# Altium footprint library altera.PCBLIB: 27 footprints (part 2 of 4)
Each footprint in its own frame and in the unit in brackets; x right, y up, seen from the top. Pads: shape width x height; smd on the part's side, far side on the other; paste and mask are expansions set on the pad; w line width, h text height; cw(c..) or ccw(c..) is an arc to the next point about the centre after c.
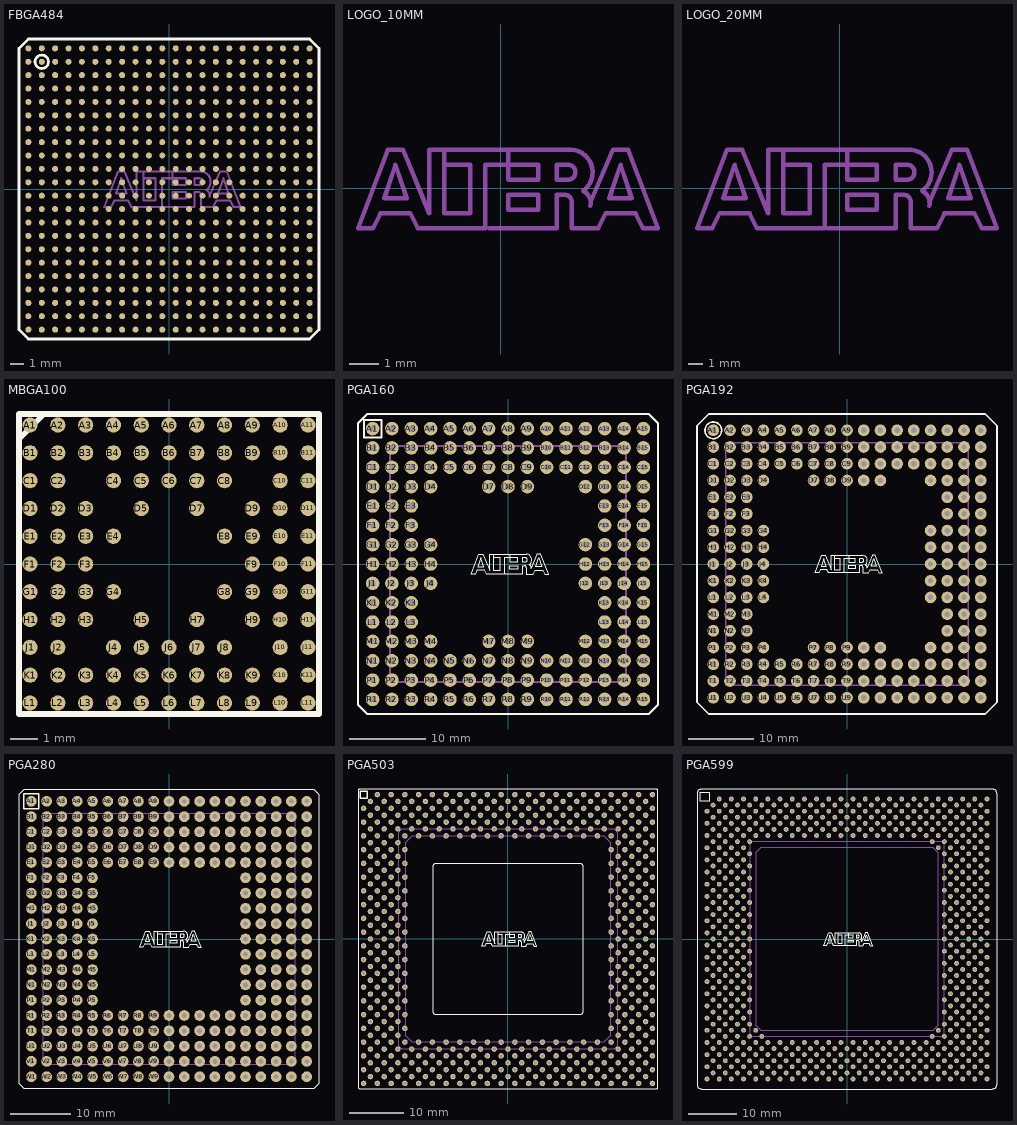
[diagram p1: the footprints below, top view; thin cyan lines are the x and y axes]

## FBGA484 [mil]
pads (484):
  rrect100% 17.72x17.72 smd: A1(-413.39,413.39) A2(-374.02,413.39) A3(-334.65,413.39) A4(-295.28,413.39) A5(-255.91,413.39) A6(-216.54,413.39) A7(-177.17,413.39) A8(-137.8,413.39) A9(-98.43,413.39) A10(-59.06,413.39) A11(-19.69,413.39) A12(19.69,413.39) A13(59.06,413.39) A14(98.43,413.39) A15(137.8,413.39) A16(177.17,413.39) A17(216.54,413.39) A18(255.91,413.39) A19(295.28,413.39) A20(334.65,413.39) A21(374.02,413.39) A22(413.39,413.39) AA1(-413.39,-374.02) AA2(-374.02,-374.02) AA3(-334.65,-374.02) AA4(-295.28,-374.02) AA5(-255.91,-374.02) AA6(-216.54,-374.02) AA7(-177.17,-374.02) AA8(-137.8,-374.02) AA9(-98.43,-374.02) AA10(-59.06,-374.02) AA11(-19.69,-374.02) AA12(19.69,-374.02) AA13(59.06,-374.02) AA14(98.43,-374.02) AA15(137.8,-374.02) AA16(177.17,-374.02) AA17(216.54,-374.02) AA18(255.91,-374.02) AA19(295.28,-374.02) AA20(334.65,-374.02) AA21(374.02,-374.02) AA22(413.39,-374.02) AB1(-413.39,-413.39) AB2(-374.02,-413.39) AB3(-334.65,-413.39) AB4(-295.28,-413.39) AB5(-255.91,-413.39) AB6(-216.54,-413.39) AB7(-177.17,-413.39) AB8(-137.8,-413.39) AB9(-98.43,-413.39) AB10(-59.06,-413.39) AB11(-19.69,-413.39) AB12(19.69,-413.39) AB13(59.06,-413.39) AB14(98.43,-413.39) AB15(137.8,-413.39) AB16(177.17,-413.39) AB17(216.54,-413.39) AB18(255.91,-413.39) AB19(295.28,-413.39) AB20(334.65,-413.39) AB21(374.02,-413.39) AB22(413.39,-413.39) B1(-413.39,374.02) B2(-374.02,374.02) B3(-334.65,374.02) B4(-295.28,374.02) B5(-255.91,374.02) B6(-216.54,374.02) B7(-177.17,374.02) B8(-137.8,374.02) B9(-98.43,374.02) B10(-59.06,374.02) B11(-19.69,374.02) B12(19.69,374.02) B13(59.06,374.02) B14(98.43,374.02) B15(137.8,374.02) B16(177.17,374.02) B17(216.54,374.02) B18(255.91,374.02) B19(295.28,374.02) B20(334.65,374.02) B21(374.02,374.02) B22(413.39,374.02) C1(-413.39,334.65) C2(-374.02,334.65) C3(-334.65,334.65) C4(-295.28,334.65) C5(-255.91,334.65) C6(-216.54,334.65) C7(-177.17,334.65) C8(-137.8,334.65) C9(-98.43,334.65) C10(-59.06,334.65) C11(-19.69,334.65) C12(19.69,334.65) C13(59.06,334.65) C14(98.43,334.65) C15(137.8,334.65) C16(177.17,334.65) C17(216.54,334.65) C18(255.91,334.65) C19(295.28,334.65) C20(334.65,334.65) C21(374.02,334.65) C22(413.39,334.65) D1(-413.39,295.28) D2(-374.02,295.28) D3(-334.65,295.28) D4(-295.28,295.28) D5(-255.91,295.28) D6(-216.54,295.28) D7(-177.17,295.28) D8(-137.8,295.28) D9(-98.43,295.28) D10(-59.06,295.28) D11(-19.69,295.28) D12(19.69,295.28) D13(59.06,295.28) D14(98.43,295.28) D15(137.8,295.28) D16(177.17,295.28) D17(216.54,295.28) D18(255.91,295.28) D19(295.28,295.28) D20(334.65,295.28) D21(374.02,295.28) D22(413.39,295.28) E1(-413.39,255.91) E2(-374.02,255.91) E3(-334.65,255.91) E4(-295.28,255.91) E5(-255.91,255.91) E6(-216.54,255.91) E7(-177.17,255.91) E8(-137.8,255.91) E9(-98.43,255.91) E10(-59.06,255.91) E11(-19.69,255.91) E12(19.69,255.91) E13(59.06,255.91) E14(98.43,255.91) E15(137.8,255.91) E16(177.17,255.91) E17(216.54,255.91) E18(255.91,255.91) E19(295.28,255.91) E20(334.65,255.91) E21(374.02,255.91) E22(413.39,255.91) F1(-413.39,216.54) F2(-374.02,216.54) F3(-334.65,216.54) F4(-295.28,216.54) F5(-255.91,216.54) F6(-216.54,216.54) F7(-177.17,216.54) F8(-137.8,216.54) F9(-98.43,216.54) F10(-59.06,216.54) F11(-19.69,216.54) F12(19.69,216.54) F13(59.06,216.54) F14(98.43,216.54) F15(137.8,216.54) F16(177.17,216.54) F17(216.54,216.54) F18(255.91,216.54) F19(295.28,216.54) F20(334.65,216.54) F21(374.02,216.54) F22(413.39,216.54) G1(-413.39,177.17) G2(-374.02,177.17) G3(-334.65,177.17) G4(-295.28,177.17) G5(-255.91,177.17) G6(-216.54,177.17) G7(-177.17,177.17) G8(-137.8,177.17) G9(-98.43,177.17) G10(-59.06,177.17) G11(-19.69,177.17) G12(19.69,177.17) G13(59.06,177.17) G14(98.43,177.17) G15(137.8,177.17) G16(177.17,177.17) G17(216.54,177.17) G18(255.91,177.17) G19(295.28,177.17) G20(334.65,177.17) G21(374.02,177.17) G22(413.39,177.17) H1(-413.39,137.8) H2(-374.02,137.8) H3(-334.65,137.8) H4(-295.28,137.8) H5(-255.91,137.8) H6(-216.54,137.8) H7(-177.17,137.8) H8(-137.8,137.8) H9(-98.43,137.8) H10(-59.06,137.8) H11(-19.69,137.8) H12(19.69,137.8) H13(59.06,137.8) H14(98.43,137.8) H15(137.8,137.8) H16(177.17,137.8) H17(216.54,137.8) H18(255.91,137.8) H19(295.28,137.8) H20(334.65,137.8) H21(374.02,137.8) H22(413.39,137.8) J1(-413.39,98.43) J2(-374.02,98.43) J3(-334.65,98.43) J4(-295.28,98.43) J5(-255.91,98.43) J6(-216.54,98.43) J7(-177.17,98.43) J8(-137.8,98.43) J9(-98.43,98.43) J10(-59.06,98.43) J11(-19.69,98.43) J12(19.69,98.43) J13(59.06,98.43) J14(98.43,98.43) J15(137.8,98.43) J16(177.17,98.43) J17(216.54,98.43) J18(255.91,98.43) J19(295.28,98.43) J20(334.65,98.43) J21(374.02,98.43) J22(413.39,98.43) K1(-413.39,59.06) K2(-374.02,59.06) K3(-334.65,59.06) K4(-295.28,59.06) K5(-255.91,59.06) K6(-216.54,59.06) K7(-177.17,59.06) K8(-137.8,59.06) K9(-98.43,59.06) K10(-59.06,59.06) K11(-19.69,59.06) K12(19.69,59.06) K13(59.06,59.06) K14(98.43,59.06) K15(137.8,59.06) K16(177.17,59.06) K17(216.54,59.06) K18(255.91,59.06) K19(295.28,59.06) K20(334.65,59.06) K21(374.02,59.06) K22(413.39,59.06) L1(-413.39,19.69) L2(-374.02,19.69) L3(-334.65,19.69) L4(-295.28,19.69) L5(-255.91,19.69) L6(-216.54,19.69) L7(-177.17,19.69) L8(-137.8,19.69) L9(-98.43,19.69) L10(-59.06,19.69) L11(-19.69,19.69) L12(19.69,19.69) L13(59.06,19.69) L14(98.43,19.69) L15(137.8,19.69) L16(177.17,19.69) L17(216.54,19.69) L18(255.91,19.69) L19(295.28,19.69) L20(334.65,19.69) L21(374.02,19.69) L22(413.39,19.69) M1(-413.39,-19.69) M2(-374.02,-19.69) M3(-334.65,-19.69) M4(-295.28,-19.69) M5(-255.91,-19.69) M6(-216.54,-19.69) M7(-177.17,-19.69) M8(-137.8,-19.69) M9(-98.43,-19.69) M10(-59.06,-19.69) M11(-19.69,-19.69) M12(19.69,-19.69) M13(59.06,-19.69) M14(98.43,-19.69) M15(137.8,-19.69) M16(177.17,-19.69) M17(216.54,-19.69) M18(255.91,-19.69) M19(295.28,-19.69) M20(334.65,-19.69) M21(374.02,-19.69) M22(413.39,-19.69) N1(-413.39,-59.06) N2(-374.02,-59.06) N3(-334.65,-59.06) N4(-295.28,-59.06) N5(-255.91,-59.06) N6(-216.54,-59.06) N7(-177.17,-59.06) N8(-137.8,-59.06) N9(-98.43,-59.06) N10(-59.06,-59.06) N11(-19.69,-59.06) N12(19.69,-59.06) N13(59.06,-59.06) N14(98.43,-59.06) N15(137.8,-59.06) N16(177.17,-59.06) N17(216.54,-59.06) N18(255.91,-59.06) N19(295.28,-59.06) N20(334.65,-59.06) N21(374.02,-59.06) N22(413.39,-59.06) P1(-413.39,-98.43) P2(-374.02,-98.43) P3(-334.65,-98.43) P4(-295.28,-98.43) P5(-255.91,-98.43) P6(-216.54,-98.43) P7(-177.17,-98.43) P8(-137.8,-98.43) P9(-98.43,-98.43) P10(-59.06,-98.43) P11(-19.69,-98.43) P12(19.69,-98.43) P13(59.06,-98.43) P14(98.43,-98.43) P15(137.8,-98.43) P16(177.17,-98.43) P17(216.54,-98.43) P18(255.91,-98.43) P19(295.28,-98.43) P20(334.65,-98.43) P21(374.02,-98.43) P22(413.39,-98.43) R1(-413.39,-137.8) R2(-374.02,-137.8) R3(-334.65,-137.8) R4(-295.28,-137.8) R5(-255.91,-137.8) R6(-216.54,-137.8) R7(-177.17,-137.8) R8(-137.8,-137.8) R9(-98.43,-137.8) R10(-59.06,-137.8) R11(-19.69,-137.8) R12(19.69,-137.8) R13(59.06,-137.8) R14(98.43,-137.8) R15(137.8,-137.8) R16(177.17,-137.8) R17(216.54,-137.8) R18(255.91,-137.8) R19(295.28,-137.8) R20(334.65,-137.8) R21(374.02,-137.8) R22(413.39,-137.8) T1(-413.39,-177.17) T2(-374.02,-177.17) T3(-334.65,-177.17) T4(-295.28,-177.17) T5(-255.91,-177.17) T6(-216.54,-177.17) T7(-177.17,-177.17) T8(-137.8,-177.17) T9(-98.43,-177.17) T10(-59.06,-177.17) T11(-19.69,-177.17) T12(19.69,-177.17) T13(59.06,-177.17) T14(98.43,-177.17) T15(137.8,-177.17) T16(177.17,-177.17) T17(216.54,-177.17) T18(255.91,-177.17) T19(295.28,-177.17) T20(334.65,-177.17) T21(374.02,-177.17) T22(413.39,-177.17) U1(-413.39,-216.54) U2(-374.02,-216.54) U3(-334.65,-216.54) U4(-295.28,-216.54) U5(-255.91,-216.54) U6(-216.54,-216.54) U7(-177.17,-216.54) U8(-137.8,-216.54) U9(-98.43,-216.54) U10(-59.06,-216.54) U11(-19.69,-216.54) U12(19.69,-216.54) U13(59.06,-216.54) U14(98.43,-216.54) U15(137.8,-216.54) U16(177.17,-216.54) U17(216.54,-216.54) U18(255.91,-216.54) U19(295.28,-216.54) U20(334.65,-216.54) U21(374.02,-216.54) U22(413.39,-216.54) V1(-413.39,-255.91) V2(-374.02,-255.91) V3(-334.65,-255.91) V4(-295.28,-255.91) V5(-255.91,-255.91) V6(-216.54,-255.91) V7(-177.17,-255.91) V8(-137.8,-255.91) V9(-98.43,-255.91) V10(-59.06,-255.91) V11(-19.69,-255.91) V12(19.69,-255.91) V13(59.06,-255.91) V14(98.43,-255.91) V15(137.8,-255.91) V16(177.17,-255.91) V17(216.54,-255.91) V18(255.91,-255.91) V19(295.28,-255.91) V20(334.65,-255.91) V21(374.02,-255.91) V22(413.39,-255.91) W1(-413.39,-295.28) W2(-374.02,-295.28) W3(-334.65,-295.28) W4(-295.28,-295.28) W5(-255.91,-295.28) W6(-216.54,-295.28) W7(-177.17,-295.28) W8(-137.8,-295.28) W9(-98.43,-295.28) W10(-59.06,-295.28) W11(-19.69,-295.28) W12(19.69,-295.28) W13(59.06,-295.28) W14(98.43,-295.28) W15(137.8,-295.28) W16(177.17,-295.28) W17(216.54,-295.28) W18(255.91,-295.28) W19(295.28,-295.28) W20(334.65,-295.28) W21(374.02,-295.28) W22(413.39,-295.28) Y1(-413.39,-334.65) Y2(-374.02,-334.65) Y3(-334.65,-334.65) Y4(-295.28,-334.65) Y5(-255.91,-334.65) Y6(-216.54,-334.65) Y7(-177.17,-334.65) Y8(-137.8,-334.65) Y9(-98.43,-334.65) Y10(-59.06,-334.65) Y11(-19.69,-334.65) Y12(19.69,-334.65) Y13(59.06,-334.65) Y14(98.43,-334.65) Y15(137.8,-334.65) Y16(177.17,-334.65) Y17(216.54,-334.65) Y18(255.91,-334.65) Y19(295.28,-334.65) Y20(334.65,-334.65) Y21(374.02,-334.65) Y22(413.39,-334.65)
Top Overlay:
  circle w8: c-374.02,374.02 r19.69
  lines w8: -440.94,-413.39 -413.39,-440.94 413.39,-440.94 440.94,-413.39 440.94,413.39 413.39,440.94 -413.39,440.94 -440.94,413.39 -440.94,-413.39
Mechanical 16:
  lines w6: -15.32,-53.43 74.69,-53.43 74.69,-8.43 84.69,-8.43 cw(c84.69,-18.43) 94.69,-18.43 94.69,-53.43 129.69,-53.43 139.69,-33.43 179.69,-33.43 189.69,-53.43 209.69,-53.43 169.69,51.57 149.69,51.57 119.69,-18.43 ; 119.68,-23.43 ccw(c102.19,-19.67) 109.69,-3.43 ccw(c92.19,21.34) 94.69,51.57 9.69,51.57 ; -75.32,31.57 -75.32,51.57 ; -75.32,31.57 -75.32,-33.43 -40.32,-33.43 -40.32,31.57 -75.32,31.57 ; -75.32,51.57 -95.32,51.57 -95.32,-33.43 -130.32,51.57 -150.32,51.57 -190.32,-53.43 -170.32,-53.43 -160.32,-33.43 -120.32,-33.43 -110.32,-53.43 -20.32,-53.43 -20.32,31.57 9.69,31.57 ; -75.32,51.57 9.69,51.57 ; 9.69,31.57 9.69,51.57 ; 9.69,31.57 9.69,11.57 49.69,11.57 49.69,31.57 9.69,31.57 ; -155.32,-13.43 -140.32,31.57 -125.32,-13.43 -155.32,-13.43 ; 9.69,-28.43 49.69,-28.43 49.69,-8.43 9.69,-8.43 9.69,-28.43 ; 74.69,11.57 74.69,31.57 89.69,31.57 cw(c89.69,21.57) 89.69,11.57 74.69,11.57 ; 144.69,-13.43 174.69,-13.43 159.69,31.57 144.69,-13.43
  text "FBGA484" at -84.69,-118.46 h49.6

## LOGO_10MM [mil]
Mechanical 16:
  lines w6: -15.32,-53.43 74.69,-53.43 74.69,-8.43 84.69,-8.43 cw(c84.69,-18.43) 94.69,-18.43 94.69,-53.43 129.69,-53.43 139.69,-33.43 179.69,-33.43 189.69,-53.43 209.69,-53.43 169.69,51.57 149.69,51.57 119.69,-18.43 ; 119.68,-23.43 ccw(c102.19,-19.67) 109.69,-3.43 ccw(c92.19,21.34) 94.69,51.57 9.69,51.57 ; -75.32,31.57 -75.32,51.57 ; -75.32,31.57 -75.32,-33.43 -40.32,-33.43 -40.32,31.57 -75.32,31.57 ; -75.32,51.57 -95.32,51.57 -95.32,-33.43 -130.32,51.57 -150.32,51.57 -190.32,-53.43 -170.32,-53.43 -160.32,-33.43 -120.32,-33.43 -110.32,-53.43 -20.32,-53.43 -20.32,31.57 9.69,31.57 ; -75.32,51.57 9.69,51.57 ; 9.69,31.57 9.69,51.57 ; 9.69,31.57 9.69,11.57 49.69,11.57 49.69,31.57 9.69,31.57 ; -155.32,-13.43 -140.32,31.57 -125.32,-13.43 -155.32,-13.43 ; 9.69,-28.43 49.69,-28.43 49.69,-8.43 9.69,-8.43 9.69,-28.43 ; 74.69,11.57 74.69,31.57 89.69,31.57 cw(c89.69,21.57) 89.69,11.57 74.69,11.57 ; 144.69,-13.43 174.69,-13.43 159.69,31.57 144.69,-13.43

## LOGO_20MM [mil]
Mechanical 16:
  lines w12: -30.63,-106.85 149.37,-106.85 149.37,-16.85 169.37,-16.85 cw(c169.37,-36.85) 189.37,-36.85 189.37,-106.85 259.37,-106.85 279.37,-66.85 359.37,-66.85 379.37,-106.85 419.37,-106.85 339.37,103.15 299.37,103.15 239.37,-36.85 ; 219.38,-6.88 ccw(c184.37,42.67) 189.37,103.13 19.37,103.15 ; 219.38,-6.86 cw(c204.38,-39.34) 239.35,-46.86 ; -150.63,63.15 -150.63,103.15 ; -150.63,63.15 -150.63,-66.85 -80.63,-66.85 -80.63,63.15 -150.63,63.15 ; -150.63,103.15 -190.63,103.15 -190.63,-66.85 -260.63,103.15 -300.63,103.15 -380.63,-106.85 -340.63,-106.85 -320.63,-66.85 -240.63,-66.85 -220.63,-106.85 -40.63,-106.85 -40.63,63.15 19.37,63.15 ; -150.63,103.15 19.37,103.15 ; 19.37,63.15 19.37,103.15 ; 19.37,63.15 19.37,23.15 99.37,23.15 99.37,63.15 19.37,63.15 ; -310.63,-26.85 -280.63,63.15 -250.63,-26.85 -310.63,-26.85 ; 19.37,-56.85 99.37,-56.85 99.37,-16.85 19.37,-16.85 19.37,-56.85 ; 149.37,23.15 149.37,63.15 179.37,63.15 cw(c179.37,43.15) 179.37,23.15 149.37,23.15 ; 289.37,-26.85 349.37,-26.85 319.37,63.15 289.37,-26.85

## MBGA100 [mm]
pads (100):
  rrect100% 0.55x0.55 smd: A1(-5,5) A2(-4,5) A3(-3,5) A4(-2,5) A5(-1,5) A6(0,5) A7(1,5) A8(2,5) A9(3,5) A10(4,5) A11(5,5) B1(-5,4) B2(-4,4) B3(-3,4) B4(-2,4) B5(-1,4) B6(0,4) B7(1,4) B8(2,4) B9(3,4) B10(4,4) B11(5,4) C1(-5,3) C2(-4,3) C4(-2,3) C5(-1,3) C6(0,3) C7(1,3) C8(2,3) C10(4,3) C11(5,3) D1(-5,2) D2(-4,2) D3(-3,2) D5(-1,2) D7(1,2) D9(3,2) D10(4,2) D11(5,2) E1(-5,1) E2(-4,1) E3(-3,1) E4(-2,1) E8(2,1) E9(3,1) E10(4,1) E11(5,1) F1(-5,0) F2(-4,0) F3(-3,0) F9(3,0) F10(4,0) F11(5,0) G1(-5,-1) G2(-4,-1) G3(-3,-1) G4(-2,-1) G8(2,-1) G9(3,-1) G10(4,-1) G11(5,-1) H1(-5,-2) H2(-4,-2) H3(-3,-2) H5(-1,-2) H7(1,-2) H9(3,-2) H10(4,-2) H11(5,-2) J1(-5,-3) J2(-4,-3) J4(-2,-3) J5(-1,-3) J6(0,-3) J7(1,-3) J8(2,-3) J10(4,-3) J11(5,-3) K1(-5,-4) K2(-4,-4) K3(-3,-4) K4(-2,-4) K5(-1,-4) K6(0,-4) K7(1,-4) K8(2,-4) K9(3,-4) K10(4,-4) K11(5,-4) L1(-5,-5) L2(-4,-5) L3(-3,-5) L4(-2,-5) L5(-1,-5) L6(0,-5) L7(1,-5) L8(2,-5) L9(3,-5) L10(4,-5) L11(5,-5)
Top Overlay:
  lines w0.203: -5.399,4.5 -5.399,5.399 -4.5,5.399 ; -5.399,4.5 -5.399,-5.399 5.399,-5.399 5.399,5.399 -4.5,5.399 ; -5.399,4.5 -4.5,5.399
Top Solder:
  circle w0: c5,-5 r0.225
  circle w0: c4,-5 r0.225
  circle w0: c3,-5 r0.225
  circle w0: c2,-5 r0.225
  circle w0: c1,-5 r0.225
  circle w0: c0,-5 r0.225
  circle w0: c-1,-5 r0.225
  circle w0: c-2,-5 r0.225
  circle w0: c-3,-5 r0.225
  circle w0: c-4,-5 r0.225
  circle w0: c-5,-5 r0.225
  circle w0: c5,-4 r0.225
  circle w0: c4,-4 r0.225
  circle w0: c3,-4 r0.225
  circle w0: c2,-4 r0.225
  circle w0: c1,-4 r0.225
  circle w0: c0,-4 r0.225
  circle w0: c-1,-4 r0.225
  circle w0: c-2,-4 r0.225
  circle w0: c-3,-4 r0.225
  circle w0: c-4,-4 r0.225
  circle w0: c-5,-4 r0.225
  circle w0: c5,-3 r0.225
  circle w0: c4,-3 r0.225
  circle w0: c2,-3 r0.225
  circle w0: c1,-3 r0.225
  circle w0: c0,-3 r0.225
  circle w0: c-1,-3 r0.225
  circle w0: c-2,-3 r0.225
  circle w0: c-4,-3 r0.225
  circle w0: c-5,-3 r0.225
  circle w0: c5,-2 r0.225
  circle w0: c4,-2 r0.225
  circle w0: c3,-2 r0.225
  circle w0: c1,-2 r0.225
  circle w0: c-1,-2 r0.225
  circle w0: c-3,-2 r0.225
  circle w0: c-4,-2 r0.225
  circle w0: c-5,-2 r0.225
  circle w0: c5,-1 r0.225
  circle w0: c4,-1 r0.225
  circle w0: c3,-1 r0.225
  circle w0: c2,-1 r0.225
  circle w0: c-2,-1 r0.225
  circle w0: c-3,-1 r0.225
  circle w0: c-4,-1 r0.225
  circle w0: c-5,-1 r0.225
  circle w0: c5,0 r0.225
  circle w0: c4,0 r0.225
  circle w0: c3,0 r0.225
  circle w0: c-3,0 r0.225
  circle w0: c-4,0 r0.225
  circle w0: c-5,0 r0.225
  circle w0: c5,1 r0.225
  circle w0: c4,1 r0.225
  circle w0: c3,1 r0.225
  circle w0: c2,1 r0.225
  circle w0: c-2,1 r0.225
  circle w0: c-3,1 r0.225
  circle w0: c-4,1 r0.225
  circle w0: c-5,1 r0.225
  circle w0: c5,2 r0.225
  circle w0: c4,2 r0.225
  circle w0: c3,2 r0.225
  circle w0: c1,2 r0.225
  circle w0: c-1,2 r0.225
  circle w0: c-3,2 r0.225
  circle w0: c-4,2 r0.225
  circle w0: c-5,2 r0.225
  circle w0: c5,3 r0.225
  circle w0: c4,3 r0.225
  circle w0: c2,3 r0.225
  circle w0: c1,3 r0.225
  circle w0: c0,3 r0.225
  circle w0: c-1,3 r0.225
  circle w0: c-2,3 r0.225
  circle w0: c-4,3 r0.225
  circle w0: c-5,3 r0.225
  circle w0: c5,4 r0.225
  circle w0: c4,4 r0.225
  circle w0: c3,4 r0.225
  circle w0: c2,4 r0.225
  circle w0: c1,4 r0.225
  circle w0: c0,4 r0.225
  circle w0: c-1,4 r0.225
  circle w0: c-2,4 r0.225
  circle w0: c-3,4 r0.225
  circle w0: c-4,4 r0.225
  circle w0: c-5,4 r0.225
  circle w0: c5,5 r0.225
  circle w0: c4,5 r0.225
  circle w0: c3,5 r0.225
  circle w0: c2,5 r0.225
  circle w0: c1,5 r0.225
  circle w0: c0,5 r0.225
  circle w0: c-1,5 r0.225
  circle w0: c-2,5 r0.225
  circle w0: c-3,5 r0.225
  circle w0: c-4,5 r0.225
  circle w0: c-5,5 r0.225

## PGA160 [mil]
pads (160):
  round 70 hole 32: A1(-700,700) A2(-600,700) A3(-500,700) A4(-400,700) A5(-300,700) A6(-200,700) A7(-100,700) A8(0,700) A9(100,700) A10(200,700) A11(300,700) A12(400,700) A13(500,700) A14(600,700) A15(700,700) B1(-700,600) B2(-600,600) B3(-500,600) B4(-400,600) B5(-300,600) B6(-200,600) B7(-100,600) B8(0,600) B9(100,600) B10(200,600) B11(300,600) B12(400,600) B13(500,600) B14(600,600) B15(700,600) C1(-700,500) C2(-600,500) C3(-500,500) C4(-400,500) C5(-300,500) C6(-200,500) C7(-100,500) C8(0,500) C9(100,500) C10(200,500) C11(300,500) C12(400,500) C13(500,500) C14(600,500) C15(700,500) D1(-700,400) D2(-600,400) D3(-500,400) D4(-400,400) D7(-100,400) D8(0,400) D9(100,400) D12(400,400) D13(500,400) D14(600,400) D15(700,400) E1(-700,300) E2(-600,300) E3(-500,300) E13(500,300) E14(600,300) E15(700,300) F1(-700,200) F2(-600,200) F3(-500,200) F13(500,200) F14(600,200) F15(700,200) G1(-700,100) G2(-600,100) G3(-500,100) G4(-400,100) G12(400,100) G13(500,100) G14(600,100) G15(700,100) H1(-700,0) H2(-600,0) H3(-500,0) H4(-400,0) H12(400,0) H13(500,0) H14(600,0) H15(700,0) J1(-700,-100) J2(-600,-100) J3(-500,-100) J4(-400,-100) J12(400,-100) J13(500,-100) J14(600,-100) J15(700,-100) K1(-700,-200) K2(-600,-200) K3(-500,-200) K13(500,-200) K14(600,-200) K15(700,-200) L1(-700,-300) L2(-600,-300) L3(-500,-300) L13(500,-300) L14(600,-300) L15(700,-300) M1(-700,-400) M2(-600,-400) M3(-500,-400) M4(-400,-400) M7(-100,-400) M8(0,-400) M9(100,-400) M12(400,-400) M13(500,-400) M14(600,-400) M15(700,-400) N1(-700,-500) N2(-600,-500) N3(-500,-500) N4(-400,-500) N5(-300,-500) N6(-200,-500) N7(-100,-500) N8(0,-500) N9(100,-500) N10(200,-500) N11(300,-500) N12(400,-500) N13(500,-500) N14(600,-500) N15(700,-500) P1(-700,-600) P2(-600,-600) P3(-500,-600) P4(-400,-600) P5(-300,-600) P6(-200,-600) P7(-100,-600) P8(0,-600) P9(100,-600) P10(200,-600) P11(300,-600) P12(400,-600) P13(500,-600) P14(600,-600) P15(700,-600) R1(-700,-700) R2(-600,-700) R3(-500,-700) R4(-400,-700) R5(-300,-700) R6(-200,-700) R7(-100,-700) R8(0,-700) R9(100,-700) R10(200,-700) R11(300,-700) R12(400,-700) R13(500,-700) R14(600,-700) R15(700,-700)
Top Overlay:
  lines w6: -15.32,-53.43 74.69,-53.43 74.69,-8.43 84.69,-8.43 cw(c84.69,-18.43) 94.69,-18.43 94.69,-53.43 129.69,-53.43 139.69,-33.43 179.69,-33.43 189.69,-53.43 209.69,-53.43 169.69,51.57 149.69,51.57 119.69,-18.43 ; 119.68,-23.43 ccw(c102.19,-19.67) 109.69,-3.43 ccw(c92.19,21.34) 94.69,51.57 9.69,51.57 ; -75.32,31.57 -75.32,51.57 ; -75.32,31.57 -75.32,-33.43 -40.32,-33.43 -40.32,31.57 -75.32,31.57 ; -75.32,51.57 -95.32,51.57 -95.32,-33.43 -130.32,51.57 -150.32,51.57 -190.32,-53.43 -170.32,-53.43 -160.32,-33.43 -120.32,-33.43 -110.32,-53.43 -20.32,-53.43 -20.32,31.57 9.69,31.57 ; -75.32,51.57 9.69,51.57 ; 9.69,31.57 9.69,51.57 ; 9.69,31.57 9.69,11.57 49.69,11.57 49.69,31.57 9.69,31.57 ; -155.32,-13.43 -140.32,31.57 -125.32,-13.43 -155.32,-13.43 ; 9.69,-28.43 49.69,-28.43 49.69,-8.43 9.69,-8.43 9.69,-28.43 ; 74.69,11.57 74.69,31.57 89.69,31.57 cw(c89.69,21.57) 89.69,11.57 74.69,11.57 ; 144.69,-13.43 174.69,-13.43 159.69,31.57 144.69,-13.43
  lines w10: -775.59,-728.66 -728.66,-775.59 728.66,-775.59 775.59,-728.66 775.59,728.66 728.66,775.59 -728.66,775.59 -775.59,728.66 -775.59,-728.66 ; -745,655 -655,655 -655,745 -745,745 -745,655
Mechanical 16:
  lines w10: -610.24,-610.24 610.24,-610.24 610.24,610.24 -610.24,610.24 -610.24,-610.24
  text "PGA160" at -110.63,-128.74 h49.6

## PGA192 [mil]
pads (192):
  round 70 hole 32: A1(-800,800) A2(-700,800) A3(-600,800) A4(-500,800) A5(-400,800) A6(-300,800) A7(-200,800) A8(-100,800) A9(0,800) A10(100,800) A11(200,800) A12(300,800) A13(400,800) A14(500,800) A15(600,800) A16(700,800) A17(800,800) B1(-800,700) B2(-700,700) B3(-600,700) B4(-500,700) B5(-400,700) B6(-300,700) B7(-200,700) B8(-100,700) B9(0,700) B10(100,700) B11(200,700) B12(300,700) B13(400,700) B14(500,700) B15(600,700) B16(700,700) B17(800,700) C1(-800,600) C2(-700,600) C3(-600,600) C4(-500,600) C5(-400,600) C6(-300,600) C7(-200,600) C8(-100,600) C9(0,600) C10(100,600) C11(200,600) C12(300,600) C13(400,600) C14(500,600) C15(600,600) C16(700,600) C17(800,600) D1(-800,500) D2(-700,500) D3(-600,500) D4(-500,500) D7(-200,500) D8(-100,500) D9(0,500) D10(100,500) D11(200,500) D14(500,500) D15(600,500) D16(700,500) D17(800,500) E1(-800,400) E2(-700,400) E3(-600,400) E15(600,400) E16(700,400) E17(800,400) F1(-800,300) F2(-700,300) F3(-600,300) F15(600,300) F16(700,300) F17(800,300) G1(-800,200) G2(-700,200) G3(-600,200) G4(-500,200) G14(500,200) G15(600,200) G16(700,200) G17(800,200) H1(-800,100) H2(-700,100) H3(-600,100) H4(-500,100) H14(500,100) H15(600,100) H16(700,100) H17(800,100) J1(-800,0) J2(-700,0) J3(-600,0) J4(-500,0) J14(500,0) J15(600,0) J16(700,0) J17(800,0) K1(-800,-100) K2(-700,-100) K3(-600,-100) K4(-500,-100) K14(500,-100) K15(600,-100) K16(700,-100) K17(800,-100) L1(-800,-200) L2(-700,-200) L3(-600,-200) L4(-500,-200) L14(500,-200) L15(600,-200) L16(700,-200) L17(800,-200) M1(-800,-300) M2(-700,-300) M3(-600,-300) M15(600,-300) M16(700,-300) M17(800,-300) N1(-800,-400) N2(-700,-400) N3(-600,-400) N15(600,-400) N16(700,-400) N17(800,-400) P1(-800,-500) P2(-700,-500) P3(-600,-500) P4(-500,-500) P7(-200,-500) P8(-100,-500) P9(0,-500) P10(100,-500) P11(200,-500) P14(500,-500) P15(600,-500) P16(700,-500) P17(800,-500) R1(-800,-600) R2(-700,-600) R3(-600,-600) R4(-500,-600) R5(-400,-600) R6(-300,-600) R7(-200,-600) R8(-100,-600) R9(0,-600) R10(100,-600) R11(200,-600) R12(300,-600) R13(400,-600) R14(500,-600) R15(600,-600) R16(700,-600) R17(800,-600) T1(-800,-700) T2(-700,-700) T3(-600,-700) T4(-500,-700) T5(-400,-700) T6(-300,-700) T7(-200,-700) T8(-100,-700) T9(0,-700) T10(100,-700) T11(200,-700) T12(300,-700) T13(400,-700) T14(500,-700) T15(600,-700) T16(700,-700) T17(800,-700) U1(-800,-800) U2(-700,-800) U3(-600,-800) U4(-500,-800) U5(-400,-800) U6(-300,-800) U7(-200,-800) U8(-100,-800) U9(0,-800) U10(100,-800) U11(200,-800) U12(300,-800) U13(400,-800) U14(500,-800) U15(600,-800) U16(700,-800) U17(800,-800)
Top Overlay:
  circle w10: c-800,800 r50
  lines w6: -15.32,-53.43 74.69,-53.43 74.69,-8.43 84.69,-8.43 cw(c84.69,-18.43) 94.69,-18.43 94.69,-53.43 129.69,-53.43 139.69,-33.43 179.69,-33.43 189.69,-53.43 209.69,-53.43 169.69,51.57 149.69,51.57 119.69,-18.43 ; 119.68,-23.43 ccw(c102.19,-19.67) 109.69,-3.43 ccw(c92.19,21.34) 94.69,51.57 9.69,51.57 ; -75.32,31.57 -75.32,51.57 ; -75.32,31.57 -75.32,-33.43 -40.32,-33.43 -40.32,31.57 -75.32,31.57 ; -75.32,51.57 -95.32,51.57 -95.32,-33.43 -130.32,51.57 -150.32,51.57 -190.32,-53.43 -170.32,-53.43 -160.32,-33.43 -120.32,-33.43 -110.32,-53.43 -20.32,-53.43 -20.32,31.57 9.69,31.57 ; -75.32,51.57 9.69,51.57 ; 9.69,31.57 9.69,51.57 ; 9.69,31.57 9.69,11.57 49.69,11.57 49.69,31.57 9.69,31.57 ; -155.32,-13.43 -140.32,31.57 -125.32,-13.43 -155.32,-13.43 ; 9.69,-28.43 49.69,-28.43 49.69,-8.43 9.69,-8.43 9.69,-28.43 ; 74.69,11.57 74.69,31.57 89.69,31.57 cw(c89.69,21.57) 89.69,11.57 74.69,11.57 ; 144.69,-13.43 174.69,-13.43 159.69,31.57 144.69,-13.43
  lines w10: -897.64,-826.77 -826.77,-897.64 826.77,-897.64 897.64,-826.77 897.64,826.77 826.77,897.64 -826.77,897.64 -897.64,826.77 -897.64,-826.77
Mechanical 16:
  lines w10: -725,-725 -725,725 725,725 725,-725 -725,-725
  text "PGA192" at -110.63,-128.74 h49.6

## PGA280 [mil]
pads (280):
  round 70 hole 32: A1(-900,900) A2(-800,900) A3(-700,900) A4(-600,900) A5(-500,900) A6(-400,900) A7(-300,900) A8(-200,900) A9(-100,900) A10(0,900) A11(100,900) A12(200,900) A13(300,900) A14(400,900) A15(500,900) A16(600,900) A17(700,900) A18(800,900) A19(900,900) B1(-900,800) B2(-800,800) B3(-700,800) B4(-600,800) B5(-500,800) B6(-400,800) B7(-300,800) B8(-200,800) B9(-100,800) B10(0,800) B11(100,800) B12(200,800) B13(300,800) B14(400,800) B15(500,800) B16(600,800) B17(700,800) B18(800,800) B19(900,800) C1(-900,700) C2(-800,700) C3(-700,700) C4(-600,700) C5(-500,700) C6(-400,700) C7(-300,700) C8(-200,700) C9(-100,700) C10(0,700) C11(100,700) C12(200,700) C13(300,700) C14(400,700) C15(500,700) C16(600,700) C17(700,700) C18(800,700) C19(900,700) D1(-900,600) D2(-800,600) D3(-700,600) D4(-600,600) D5(-500,600) D6(-400,600) D7(-300,600) D8(-200,600) D9(-100,600) D10(0,600) D11(100,600) D12(200,600) D13(300,600) D14(400,600) D15(500,600) D16(600,600) D17(700,600) D18(800,600) D19(900,600) E1(-900,500) E2(-800,500) E3(-700,500) E4(-600,500) E5(-500,500) E6(-400,500) E7(-300,500) E8(-200,500) E9(-100,500) E10(0,500) E11(100,500) E12(200,500) E13(300,500) E14(400,500) E15(500,500) E16(600,500) E17(700,500) E18(800,500) E19(900,500) F1(-900,400) F2(-800,400) F3(-700,400) F4(-600,400) F5(-500,400) F15(500,400) F16(600,400) F17(700,400) F18(800,400) F19(900,400) G1(-900,300) G2(-800,300) G3(-700,300) G4(-600,300) G5(-500,300) G15(500,300) G16(600,300) G17(700,300) G18(800,300) G19(900,300) H1(-900,200) H2(-800,200) H3(-700,200) H4(-600,200) H5(-500,200) H15(500,200) H16(600,200) H17(700,200) H18(800,200) H19(900,200) J1(-900,100) J2(-800,100) J3(-700,100) J4(-600,100) J5(-500,100) J15(500,100) J16(600,100) J17(700,100) J18(800,100) J19(900,100) K1(-900,0) K2(-800,0) K3(-700,0) K4(-600,0) K5(-500,0) K15(500,0) K16(600,0) K17(700,0) K18(800,0) K19(900,0) L1(-900,-100) L2(-800,-100) L3(-700,-100) L4(-600,-100) L5(-500,-100) L15(500,-100) L16(600,-100) L17(700,-100) L18(800,-100) L19(900,-100) M1(-900,-200) M2(-800,-200) M3(-700,-200) M4(-600,-200) M5(-500,-200) M15(500,-200) M16(600,-200) M17(700,-200) M18(800,-200) M19(900,-200) N1(-900,-300) N2(-800,-300) N3(-700,-300) N4(-600,-300) N5(-500,-300) N15(500,-300) N16(600,-300) N17(700,-300) N18(800,-300) N19(900,-300) P1(-900,-400) P2(-800,-400) P3(-700,-400) P4(-600,-400) P5(-500,-400) P15(500,-400) P16(600,-400) P17(700,-400) P18(800,-400) P19(900,-400) R1(-900,-500) R2(-800,-500) R3(-700,-500) R4(-600,-500) R5(-500,-500) R6(-400,-500) R7(-300,-500) R8(-200,-500) R9(-100,-500) R10(0,-500) R11(100,-500) R12(200,-500) R13(300,-500) R14(400,-500) R15(500,-500) R16(600,-500) R17(700,-500) R18(800,-500) R19(900,-500) T1(-900,-600) T2(-800,-600) T3(-700,-600) T4(-600,-600) T5(-500,-600) T6(-400,-600) T7(-300,-600) T8(-200,-600) T9(-100,-600) T10(0,-600) T11(100,-600) T12(200,-600) T13(300,-600) T14(400,-600) T15(500,-600) T16(600,-600) T17(700,-600) T18(800,-600) T19(900,-600) U1(-900,-700) U2(-800,-700) U3(-700,-700) U4(-600,-700) U5(-500,-700) U6(-400,-700) U7(-300,-700) U8(-200,-700) U9(-100,-700) U10(0,-700) U11(100,-700) U12(200,-700) U13(300,-700) U14(400,-700) U15(500,-700) U16(600,-700) U17(700,-700) U18(800,-700) U19(900,-700) V1(-900,-800) V2(-800,-800) V3(-700,-800) V4(-600,-800) V5(-500,-800) V6(-400,-800) V7(-300,-800) V8(-200,-800) V9(-100,-800) V10(0,-800) V11(100,-800) V12(200,-800) V13(300,-800) V14(400,-800) V15(500,-800) V16(600,-800) V17(700,-800) V18(800,-800) V19(900,-800) W1(-900,-900) W2(-800,-900) W3(-700,-900) W4(-600,-900) W5(-500,-900) W6(-400,-900) W7(-300,-900) W8(-200,-900) W9(-100,-900) W10(0,-900) W11(100,-900) W12(200,-900) W13(300,-900) W14(400,-900) W15(500,-900) W16(600,-900) W17(700,-900) W18(800,-900) W19(900,-900)
Top Overlay:
  lines w6: -15.32,-53.43 74.69,-53.43 74.69,-8.43 84.69,-8.43 cw(c84.69,-18.43) 94.69,-18.43 94.69,-53.43 129.69,-53.43 139.69,-33.43 179.69,-33.43 189.69,-53.43 209.69,-53.43 169.69,51.57 149.69,51.57 119.69,-18.43 ; 119.68,-23.43 ccw(c102.19,-19.67) 109.69,-3.43 ccw(c92.19,21.34) 94.69,51.57 9.69,51.57 ; -75.32,31.57 -75.32,51.57 ; -75.32,31.57 -75.32,-33.43 -40.32,-33.43 -40.32,31.57 -75.32,31.57 ; -75.32,51.57 -95.32,51.57 -95.32,-33.43 -130.32,51.57 -150.32,51.57 -190.32,-53.43 -170.32,-53.43 -160.32,-33.43 -120.32,-33.43 -110.32,-53.43 -20.32,-53.43 -20.32,31.57 9.69,31.57 ; -75.32,51.57 9.69,51.57 ; 9.69,31.57 9.69,51.57 ; 9.69,31.57 9.69,11.57 49.69,11.57 49.69,31.57 9.69,31.57 ; -155.32,-13.43 -140.32,31.57 -125.32,-13.43 -155.32,-13.43 ; 9.69,-28.43 49.69,-28.43 49.69,-8.43 9.69,-8.43 9.69,-28.43 ; 74.69,11.57 74.69,31.57 89.69,31.57 cw(c89.69,21.57) 89.69,11.57 74.69,11.57 ; 144.69,-13.43 174.69,-13.43 159.69,31.57 144.69,-13.43
  lines w8: -980.32,-944.88 -944.88,-980.32 944.88,-980.32 980.32,-944.88 980.32,944.88 944.88,980.32 -944.88,980.32 -980.32,944.88 -980.32,-944.88
  lines w10: -950,850 -950,950 -850,950 -850,850 -950,850
Mechanical 16:
  lines w8: -822.83,-822.83 822.83,-822.83 822.83,822.83 -822.83,822.83 -822.83,-822.83
  text "PGA280" at -110.63,-128.74 h49.6

## PGA503 [mil]
pads (503):
  round 40 hole 24: A3(-950,1050) A5(-850,1050) A7(-750,1050) A9(-650,1050) A11(-550,1050) A13(-450,1050) A15(-350,1050) A17(-250,1050) A19(-150,1050) A21(-50,1050) A23(50,1050) A25(150,1050) A27(250,1050) A29(350,1050) A31(450,1050) A33(550,1050) A35(650,1050) A37(750,1050) A39(850,1050) A41(950,1050) A43(1050,1050) AA1(-1050,50) AA3(-950,50) AA5(-850,50) AA7(-750,50) AA37(750,50) AA39(850,50) AA41(950,50) AA43(1050,50) AB2(-1000,0) AB4(-900,0) AB6(-800,0) AB38(800,0) AB40(900,0) AB42(1000,0) AC1(-1050,-50) AC3(-950,-50) AC5(-850,-50) AC7(-750,-50) AC37(750,-50) AC39(850,-50) AC41(950,-50) AC43(1050,-50) AD2(-1000,-100) AD4(-900,-100) AD6(-800,-100) AD38(800,-100) AD40(900,-100) AD42(1000,-100) AE1(-1050,-150) AE3(-950,-150) AE5(-850,-150) AE7(-750,-150) AE37(750,-150) AE39(850,-150) AE41(950,-150) AE43(1050,-150) AF2(-1000,-200) AF4(-900,-200) AF6(-800,-200) AF38(800,-200) AF40(900,-200) AF42(1000,-200) AG1(-1050,-250) AG3(-950,-250) AG5(-850,-250) AG7(-750,-250) AG37(750,-250) AG39(850,-250) AG41(950,-250) AG43(1050,-250) AH2(-1000,-300) AH4(-900,-300) AH6(-800,-300) AH38(800,-300) AH40(900,-300) AH42(1000,-300) AJ1(-1050,-350) AJ3(-950,-350) AJ5(-850,-350) AJ7(-750,-350) AJ37(750,-350) AJ39(850,-350) AJ41(950,-350) AJ43(1050,-350) AK2(-1000,-400) AK4(-900,-400) AK6(-800,-400) AK38(800,-400) AK40(900,-400) AK42(1000,-400) AL1(-1050,-450) AL3(-950,-450) AL5(-850,-450) AL7(-750,-450) AL37(750,-450) AL39(850,-450) AL41(950,-450) AL43(1050,-450) AM2(-1000,-500) AM4(-900,-500) AM6(-800,-500) AM38(800,-500) AM40(900,-500) AM42(1000,-500) AN1(-1050,-550) AN3(-950,-550) AN5(-850,-550) AN7(-750,-550) AN37(750,-550) AN39(850,-550) AN41(950,-550) AN43(1050,-550) AP2(-1000,-600) AP4(-900,-600) AP6(-800,-600) AP38(800,-600) AP40(900,-600) AP42(1000,-600) AR1(-1050,-650) AR3(-950,-650) AR5(-850,-650) AR7(-750,-650) AR37(750,-650) AR39(850,-650) AR41(950,-650) AR43(1050,-650) AT2(-1000,-700) AT4(-900,-700) AT6(-800,-700) AT38(800,-700) AT40(900,-700) AT42(1000,-700) AU1(-1050,-750) AU3(-950,-750) AU5(-850,-750) AU7(-750,-750) AU9(-650,-750) AU11(-550,-750) AU13(-450,-750) AU15(-350,-750) AU17(-250,-750) AU19(-150,-750) AU21(-50,-750) AU23(50,-750) AU25(150,-750) AU27(250,-750) AU29(350,-750) AU31(450,-750) AU33(550,-750) AU35(650,-750) AU37(750,-750) AU39(850,-750) AU41(950,-750) AU43(1050,-750) AV2(-1000,-800) AV4(-900,-800) AV6(-800,-800) AV8(-700,-800) AV10(-600,-800) AV12(-500,-800) AV14(-400,-800) AV16(-300,-800) AV18(-200,-800) AV20(-100,-800) AV22(0,-800) AV24(100,-800) AV26(200,-800) AV28(300,-800) AV30(400,-800) AV32(500,-800) AV34(600,-800) AV36(700,-800) AV38(800,-800) AV40(900,-800) AV42(1000,-800) AW1(-1050,-850) AW3(-950,-850) AW5(-850,-850) AW7(-750,-850) AW9(-650,-850) AW11(-550,-850) AW13(-450,-850) AW15(-350,-850) AW17(-250,-850) AW19(-150,-850) AW21(-50,-850) AW23(50,-850) AW25(150,-850) AW27(250,-850) AW29(350,-850) AW31(450,-850) AW33(550,-850) AW35(650,-850) AW37(750,-850) AW39(850,-850) AW41(950,-850) AW43(1050,-850) AY2(-1000,-900) AY4(-900,-900) AY6(-800,-900) AY8(-700,-900) AY10(-600,-900) AY12(-500,-900) AY14(-400,-900) AY16(-300,-900) AY18(-200,-900) AY20(-100,-900) AY22(0,-900) AY24(100,-900) AY26(200,-900) AY28(300,-900) AY30(400,-900) AY32(500,-900) AY34(600,-900) AY36(700,-900) AY38(800,-900) AY40(900,-900) AY42(1000,-900) B2(-1000,1000) B4(-900,1000) B6(-800,1000) B8(-700,1000) B10(-600,1000) B12(-500,1000) B14(-400,1000) B16(-300,1000) B18(-200,1000) B20(-100,1000) B22(0,1000) B24(100,1000) B26(200,1000) B28(300,1000) B30(400,1000) B32(500,1000) B34(600,1000) B36(700,1000) B38(800,1000) B40(900,1000) B42(1000,1000) BA1(-1050,-950) BA3(-950,-950) BA5(-850,-950) BA7(-750,-950) BA9(-650,-950) BA11(-550,-950) BA13(-450,-950) BA15(-350,-950) BA17(-250,-950) BA19(-150,-950) BA21(-50,-950) BA23(50,-950) BA25(150,-950) BA27(250,-950) BA29(350,-950) BA31(450,-950) BA33(550,-950) BA35(650,-950) BA37(750,-950) BA39(850,-950) BA41(950,-950) BA43(1050,-950) BB2(-1000,-1000) BB4(-900,-1000) BB6(-800,-1000) BB8(-700,-1000) BB10(-600,-1000) BB12(-500,-1000) BB14(-400,-1000) BB16(-300,-1000) BB18(-200,-1000) BB20(-100,-1000) BB22(0,-1000) BB24(100,-1000) BB26(200,-1000) BB28(300,-1000) BB30(400,-1000) BB32(500,-1000) BB34(600,-1000) BB36(700,-1000) BB38(800,-1000) BB40(900,-1000) BB42(1000,-1000) BC1(-1050,-1050) BC3(-950,-1050) BC5(-850,-1050) BC7(-750,-1050) BC9(-650,-1050) BC11(-550,-1050) BC13(-450,-1050) BC15(-350,-1050) BC17(-250,-1050) BC19(-150,-1050) BC21(-50,-1050) BC23(50,-1050) BC25(150,-1050) BC27(250,-1050) BC29(350,-1050) BC31(450,-1050) BC33(550,-1050) BC35(650,-1050) BC37(750,-1050) BC39(850,-1050) BC41(950,-1050) BC43(1050,-1050) C1(-1050,950) C3(-950,950) C5(-850,950) C7(-750,950) C9(-650,950) C11(-550,950) C13(-450,950) C15(-350,950) C17(-250,950) C19(-150,950) C21(-50,950) C23(50,950) C25(150,950) C27(250,950) C29(350,950) C31(450,950) C33(550,950) C35(650,950) C37(750,950) C39(850,950) C41(950,950) C43(1050,950) D2(-1000,900) D4(-900,900) D6(-800,900) D8(-700,900) D10(-600,900) D12(-500,900) D14(-400,900) D16(-300,900) D18(-200,900) D20(-100,900) D22(0,900) D24(100,900) D26(200,900) D28(300,900) D30(400,900) D32(500,900) D34(600,900) D36(700,900) D38(800,900) D40(900,900) D42(1000,900) E1(-1050,850) E3(-950,850) E5(-850,850) E7(-750,850) E9(-650,850) E11(-550,850) E13(-450,850) E15(-350,850) E17(-250,850) E19(-150,850) E21(-50,850) E23(50,850) E25(150,850) E27(250,850) E29(350,850) E31(450,850) E33(550,850) E35(650,850) E37(750,850) E39(850,850) E41(950,850) E43(1050,850) F2(-1000,800) F4(-900,800) F6(-800,800) F8(-700,800) F10(-600,800) F12(-500,800) F14(-400,800) F16(-300,800) F18(-200,800) F20(-100,800) F22(0,800) F24(100,800) F26(200,800) F28(300,800) F30(400,800) F32(500,800) F34(600,800) F36(700,800) F38(800,800) F40(900,800) F42(1000,800) G1(-1050,750) G3(-950,750) G5(-850,750) G7(-750,750) G9(-650,750) G11(-550,750) G13(-450,750) G15(-350,750) G17(-250,750) G19(-150,750) G21(-50,750) G23(50,750) G25(150,750) G27(250,750) G29(350,750) G31(450,750) G33(550,750) G35(650,750) G37(750,750) G39(850,750) G41(950,750) G43(1050,750) H2(-1000,700) H4(-900,700) H6(-800,700) H38(800,700) H40(900,700) H42(1000,700) J1(-1050,650) J3(-950,650) J5(-850,650) J7(-750,650) J37(750,650) J39(850,650) J41(950,650) J43(1050,650) K2(-1000,600) K4(-900,600) K6(-800,600) K38(800,600) K40(900,600) K42(1000,600) L1(-1050,550) L3(-950,550) L5(-850,550) L7(-750,550) L37(750,550) L39(850,550) L41(950,550) L43(1050,550) M2(-1000,500) M4(-900,500) M6(-800,500) M38(800,500) M40(900,500) M42(1000,500) N1(-1050,450) N3(-950,450) N5(-850,450) N7(-750,450) N37(750,450) N39(850,450) N41(950,450) N43(1050,450) P2(-1000,400) P4(-900,400) P6(-800,400) P38(800,400) P40(900,400) P42(1000,400) R1(-1050,350) R3(-950,350) R5(-850,350) R7(-750,350) R37(750,350) R39(850,350) R41(950,350) R43(1050,350) T2(-1000,300) T4(-900,300) T6(-800,300) T38(800,300) T40(900,300) T42(1000,300) U1(-1050,250) U3(-950,250) U5(-850,250) U7(-750,250) U37(750,250) U39(850,250) U41(950,250) U43(1050,250) V2(-1000,200) V4(-900,200) V6(-800,200) V38(800,200) V40(900,200) V42(1000,200) W1(-1050,150) W3(-950,150) W5(-850,150) W7(-750,150) W37(750,150) W39(850,150) W41(950,150) W43(1050,150) Y2(-1000,100) Y4(-900,100) Y6(-800,100) Y38(800,100) Y40(900,100) Y42(1000,100)
Top Overlay:
  lines w6: -15.32,-53.43 74.69,-53.43 74.69,-8.43 84.69,-8.43 cw(c84.69,-18.43) 94.69,-18.43 94.69,-53.43 129.69,-53.43 139.69,-33.43 179.69,-33.43 189.69,-53.43 209.69,-53.43 169.69,51.57 149.69,51.57 119.69,-18.43 ; 119.68,-23.43 ccw(c102.19,-19.67) 109.69,-3.43 ccw(c92.19,21.34) 94.69,51.57 9.69,51.57 ; -75.32,31.57 -75.32,51.57 ; -75.32,31.57 -75.32,-33.43 -40.32,-33.43 -40.32,31.57 -75.32,31.57 ; -75.32,51.57 -95.32,51.57 -95.32,-33.43 -130.32,51.57 -150.32,51.57 -190.32,-53.43 -170.32,-53.43 -160.32,-33.43 -120.32,-33.43 -110.32,-53.43 -20.32,-53.43 -20.32,31.57 9.69,31.57 ; -75.32,51.57 9.69,51.57 ; 9.69,31.57 9.69,51.57 ; 9.69,31.57 9.69,11.57 49.69,11.57 49.69,31.57 9.69,31.57 ; -155.32,-13.43 -140.32,31.57 -125.32,-13.43 -155.32,-13.43 ; 9.69,-28.43 49.69,-28.43 49.69,-8.43 9.69,-8.43 9.69,-28.43 ; 74.69,11.57 74.69,31.57 89.69,31.57 cw(c89.69,21.57) 89.69,11.57 74.69,11.57 ; 144.69,-13.43 174.69,-13.43 159.69,31.57 144.69,-13.43
  lines w8: -1090.55,-1074.8 -1090.55,1074.8 cw(c-1074.8,1074.81) -1074.8,1090.56 1074.8,1090.55 cw(c1074.81,1074.8) 1090.56,1074.8 1090.55,-1074.8 cw(c1074.81,-1074.8) 1074.8,-1090.55 -1074.8,-1090.55 cw(c-1074.8,-1074.81) -1090.55,-1074.8 ; -547.24,-527.56 -547.24,527.56 cw(c-527.54,527.56) -527.56,547.26 527.56,547.24 cw(c527.56,527.54) 547.26,527.56 547.24,-527.56 cw(c527.56,-527.56) 527.56,-547.24 -527.56,-547.24 cw(c-527.56,-527.56) -547.24,-527.56
  lines w10: -1075,1025 -1025,1025 -1025,1075 -1075,1075 -1075,1025
Mechanical 16:
  lines w8: -799.21,-759.84 -799.21,759.84 cw(c-759.84,759.84) -759.84,799.21 759.84,799.21 cw(c759.84,759.84) 799.21,759.84 799.21,-759.84 cw(c759.84,-759.84) 759.84,-799.21 -759.84,-799.21 cw(c-759.84,-759.84) -799.21,-759.84 ; -748.03,-700.79 -748.03,700.79 -700.79,748.03 700.79,748.03 748.03,700.79 748.03,-700.79 700.79,-748.03 -700.79,-748.03 -748.03,-700.79
  text "PGA503" at -135.63,-403.74 h77.5

## PGA599 [mil]
pads (599):
  round 40 hole 24: A3(-1050,1150) A5(-950,1150) A7(-850,1150) A9(-750,1150) A11(-650,1150) A13(-550,1150) A15(-450,1150) A17(-350,1150) A19(-250,1150) A21(-150,1150) A23(-50,1150) A25(50,1150) A27(150,1150) A29(250,1150) A31(350,1150) A33(450,1150) A35(550,1150) A37(650,1150) A39(750,1150) A41(850,1150) A43(950,1150) A45(1050,1150) A47(1150,1150) AA1(-1150,150) AA3(-1050,150) AA5(-950,150) AA7(-850,150) AA41(850,150) AA43(950,150) AA45(1050,150) AA47(1150,150) AB2(-1100,100) AB4(-1000,100) AB6(-900,100) AB8(-800,100) AB40(800,100) AB42(900,100) AB44(1000,100) AB46(1100,100) AC1(-1150,50) AC3(-1050,50) AC5(-950,50) AC7(-850,50) AC41(850,50) AC43(950,50) AC45(1050,50) AC47(1150,50) AD2(-1100,0) AD4(-1000,0) AD6(-900,0) AD8(-800,0) AD40(800,0) AD42(900,0) AD44(1000,0) AD46(1100,0) AE1(-1150,-50) AE3(-1050,-50) AE5(-950,-50) AE7(-850,-50) AE41(850,-50) AE43(950,-50) AE45(1050,-50) AE47(1150,-50) AF2(-1100,-100) AF4(-1000,-100) AF6(-900,-100) AF8(-800,-100) AF40(800,-100) AF42(900,-100) AF44(1000,-100) AF46(1100,-100) AG1(-1150,-150) AG3(-1050,-150) AG5(-950,-150) AG7(-850,-150) AG41(850,-150) AG43(950,-150) AG45(1050,-150) AG47(1150,-150) AH2(-1100,-200) AH4(-1000,-200) AH6(-900,-200) AH8(-800,-200) AH40(800,-200) AH42(900,-200) AH44(1000,-200) AH46(1100,-200) AJ1(-1150,-250) AJ3(-1050,-250) AJ5(-950,-250) AJ7(-850,-250) AJ41(850,-250) AJ43(950,-250) AJ45(1050,-250) AJ47(1150,-250) AK2(-1100,-300) AK4(-1000,-300) AK6(-900,-300) AK8(-800,-300) AK40(800,-300) AK42(900,-300) AK44(1000,-300) AK46(1100,-300) AL1(-1150,-350) AL3(-1050,-350) AL5(-950,-350) AL7(-850,-350) AL41(850,-350) AL43(950,-350) AL45(1050,-350) AL47(1150,-350) AM2(-1100,-400) AM4(-1000,-400) AM6(-900,-400) AM8(-800,-400) AM40(800,-400) AM42(900,-400) AM44(1000,-400) AM46(1100,-400) AN1(-1150,-450) AN3(-1050,-450) AN5(-950,-450) AN7(-850,-450) AN41(850,-450) AN43(950,-450) AN45(1050,-450) AN47(1150,-450) AP2(-1100,-500) AP4(-1000,-500) AP6(-900,-500) AP8(-800,-500) AP40(800,-500) AP42(900,-500) AP44(1000,-500) AP46(1100,-500) AR1(-1150,-550) AR3(-1050,-550) AR5(-950,-550) AR7(-850,-550) AR41(850,-550) AR43(950,-550) AR45(1050,-550) AR47(1150,-550) AT2(-1100,-600) AT4(-1000,-600) AT6(-900,-600) AT8(-800,-600) AT40(800,-600) AT42(900,-600) AT44(1000,-600) AT46(1100,-600) AU1(-1150,-650) AU3(-1050,-650) AU5(-950,-650) AU7(-850,-650) AU41(850,-650) AU43(950,-650) AU45(1050,-650) AU47(1150,-650) AV2(-1100,-700) AV4(-1000,-700) AV6(-900,-700) AV8(-800,-700) AV40(800,-700) AV42(900,-700) AV44(1000,-700) AV46(1100,-700) AW1(-1150,-750) AW3(-1050,-750) AW5(-950,-750) AW7(-850,-750) AW9(-750,-750) AW39(750,-750) AW41(850,-750) AW43(950,-750) AW45(1050,-750) AW47(1150,-750) AY2(-1100,-800) AY4(-1000,-800) AY6(-900,-800) AY8(-800,-800) AY10(-700,-800) AY38(700,-800) AY40(800,-800) AY42(900,-800) AY44(1000,-800) AY46(1100,-800) B2(-1100,1100) B4(-1000,1100) B6(-900,1100) B8(-800,1100) B10(-700,1100) B12(-600,1100) B14(-500,1100) B16(-400,1100) B18(-300,1100) B20(-200,1100) B22(-100,1100) B24(0,1100) B26(100,1100) B28(200,1100) B30(300,1100) B32(400,1100) B34(500,1100) B36(600,1100) B38(700,1100) B40(800,1100) B42(900,1100) B44(1000,1100) B46(1100,1100) BA1(-1150,-850) BA3(-1050,-850) BA5(-950,-850) BA7(-850,-850) BA9(-750,-850) BA11(-650,-850) BA13(-550,-850) BA15(-450,-850) BA17(-350,-850) BA19(-250,-850) BA21(-150,-850) BA23(-50,-850) BA25(50,-850) BA27(150,-850) BA29(250,-850) BA31(350,-850) BA33(450,-850) BA35(550,-850) BA37(650,-850) BA39(750,-850) BA41(850,-850) BA43(950,-850) BA45(1050,-850) BA47(1150,-850) BB2(-1100,-900) BB4(-1000,-900) BB6(-900,-900) BB8(-800,-900) BB10(-700,-900) BB12(-600,-900) BB14(-500,-900) BB16(-400,-900) BB18(-300,-900) BB20(-200,-900) BB22(-100,-900) BB24(0,-900) BB26(100,-900) BB28(200,-900) BB30(300,-900) BB32(400,-900) BB34(500,-900) BB36(600,-900) BB38(700,-900) BB40(800,-900) BB42(900,-900) BB44(1000,-900) BB46(1100,-900) BC1(-1150,-950) BC3(-1050,-950) BC5(-950,-950) BC7(-850,-950) BC9(-750,-950) BC11(-650,-950) BC13(-550,-950) BC15(-450,-950) BC17(-350,-950) BC19(-250,-950) BC21(-150,-950) BC23(-50,-950) BC25(50,-950) BC27(150,-950) BC29(250,-950) BC31(350,-950) BC33(450,-950) BC35(550,-950) BC37(650,-950) BC39(750,-950) BC41(850,-950) BC43(950,-950) BC45(1050,-950) BC47(1150,-950) BD2(-1100,-1000) BD4(-1000,-1000) BD6(-900,-1000) BD8(-800,-1000) BD10(-700,-1000) BD12(-600,-1000) BD14(-500,-1000) BD16(-400,-1000) BD18(-300,-1000) BD20(-200,-1000) BD22(-100,-1000) BD24(0,-1000) BD26(100,-1000) BD28(200,-1000) BD30(300,-1000) BD32(400,-1000) BD34(500,-1000) BD36(600,-1000) BD38(700,-1000) BD40(800,-1000) BD42(900,-1000) BD44(1000,-1000) BD46(1100,-1000) BE1(-1150,-1050) BE3(-1050,-1050) BE5(-950,-1050) BE7(-850,-1050) BE9(-750,-1050) BE11(-650,-1050) BE13(-550,-1050) BE15(-450,-1050) BE17(-350,-1050) BE19(-250,-1050) BE21(-150,-1050) BE23(-50,-1050) BE25(50,-1050) BE27(150,-1050) BE29(250,-1050) BE31(350,-1050) BE33(450,-1050) BE35(550,-1050) BE37(650,-1050) BE39(750,-1050) BE41(850,-1050) BE43(950,-1050) BE45(1050,-1050) BE47(1150,-1050) BF2(-1100,-1100) BF4(-1000,-1100) BF6(-900,-1100) BF8(-800,-1100) BF10(-700,-1100) BF12(-600,-1100) BF14(-500,-1100) BF16(-400,-1100) BF18(-300,-1100) BF20(-200,-1100) BF22(-100,-1100) BF24(0,-1100) BF26(100,-1100) BF28(200,-1100) BF30(300,-1100) BF32(400,-1100) BF34(500,-1100) BF36(600,-1100) BF38(700,-1100) BF40(800,-1100) BF42(900,-1100) BF44(1000,-1100) BF46(1100,-1100) BG1(-1150,-1150) BG3(-1050,-1150) BG5(-950,-1150) BG7(-850,-1150) BG9(-750,-1150) BG11(-650,-1150) BG13(-550,-1150) BG15(-450,-1150) BG17(-350,-1150) BG19(-250,-1150) BG21(-150,-1150) BG23(-50,-1150) BG25(50,-1150) BG27(150,-1150) BG29(250,-1150) BG31(350,-1150) BG33(450,-1150) BG35(550,-1150) BG37(650,-1150) BG39(750,-1150) BG41(850,-1150) BG43(950,-1150) BG45(1050,-1150) BG47(1150,-1150) C1(-1150,1050) C3(-1050,1050) C5(-950,1050) C7(-850,1050) C9(-750,1050) C11(-650,1050) C13(-550,1050) C15(-450,1050) C17(-350,1050) C19(-250,1050) C21(-150,1050) C23(-50,1050) C25(50,1050) C27(150,1050) C29(250,1050) C31(350,1050) C33(450,1050) C35(550,1050) C37(650,1050) C39(750,1050) C41(850,1050) C43(950,1050) C45(1050,1050) C47(1150,1050) D2(-1100,1000) D4(-1000,1000) D6(-900,1000) D8(-800,1000) D10(-700,1000) D12(-600,1000) D14(-500,1000) D16(-400,1000) D18(-300,1000) D20(-200,1000) D22(-100,1000) D24(0,1000) D26(100,1000) D28(200,1000) D30(300,1000) D32(400,1000) D34(500,1000) D36(600,1000) D38(700,1000) D40(800,1000) D42(900,1000) D44(1000,1000) D46(1100,1000) E1(-1150,950) E3(-1050,950) E5(-950,950) E7(-850,950) E9(-750,950) E11(-650,950) E13(-550,950) E15(-450,950) E17(-350,950) E19(-250,950) E21(-150,950) E23(-50,950) E25(50,950) E27(150,950) E29(250,950) E31(350,950) E33(450,950) E35(550,950) E37(650,950) E39(750,950) E41(850,950) E43(950,950) E45(1050,950) E47(1150,950) F2(-1100,900) F4(-1000,900) F6(-900,900) F8(-800,900) F10(-700,900) F12(-600,900) F14(-500,900) F16(-400,900) F18(-300,900) F20(-200,900) F22(-100,900) F24(0,900) F26(100,900) F28(200,900) F30(300,900) F32(400,900) F34(500,900) F36(600,900) F38(700,900) F40(800,900) F42(900,900) F44(1000,900) F46(1100,900) G1(-1150,850) G3(-1050,850) G5(-950,850) G7(-850,850) G9(-750,850) G11(-650,850) G13(-550,850) G15(-450,850) G17(-350,850) G19(-250,850) G21(-150,850) G23(-50,850) G25(50,850) G27(150,850) G29(250,850) G31(350,850) G33(450,850) G35(550,850) G37(650,850) G39(750,850) G41(850,850) G43(950,850) G45(1050,850) G47(1150,850) H2(-1100,800) H4(-1000,800) H6(-900,800) H8(-800,800) H38(700,800) H40(800,800) H42(900,800) H44(1000,800) H46(1100,800) J1(-1150,750) J3(-1050,750) J5(-950,750) J7(-850,750) J39(750,750) J41(850,750) J43(950,750) J45(1050,750) J47(1150,750) K2(-1100,700) K4(-1000,700) K6(-900,700) K8(-800,700) K40(800,700) K42(900,700) K44(1000,700) K46(1100,700) L1(-1150,650) L3(-1050,650) L5(-950,650) L7(-850,650) L41(850,650) L43(950,650) L45(1050,650) L47(1150,650) M2(-1100,600) M4(-1000,600) M6(-900,600) M8(-800,600) M40(800,600) M42(900,600) M44(1000,600) M46(1100,600) N1(-1150,550) N3(-1050,550) N5(-950,550) N7(-850,550) N41(850,550) N43(950,550) N45(1050,550) N47(1150,550) P2(-1100,500) P4(-1000,500) P6(-900,500) P8(-800,500) P40(800,500) P42(900,500) P44(1000,500) P46(1100,500) R1(-1150,450) R3(-1050,450) R5(-950,450) R7(-850,450) R41(850,450) R43(950,450) R45(1050,450) R47(1150,450) T2(-1100,400) T4(-1000,400) T6(-900,400) T8(-800,400) T40(800,400) T42(900,400) T44(1000,400) T46(1100,400) U1(-1150,350) U3(-1050,350) U5(-950,350) U7(-850,350) U41(850,350) U43(950,350) U45(1050,350) U47(1150,350) V2(-1100,300) V4(-1000,300) V6(-900,300) V8(-800,300) V40(800,300) V42(900,300) V44(1000,300) V46(1100,300) W1(-1150,250) W3(-1050,250) W5(-950,250) W7(-850,250) W41(850,250) W43(950,250) W45(1050,250) W47(1150,250) Y2(-1100,200) Y4(-1000,200) Y6(-900,200) Y8(-800,200) Y40(800,200) Y42(900,200) Y44(1000,200) Y46(1100,200)
Top Overlay:
  lines w6: -15.32,-53.43 74.69,-53.43 74.69,-8.43 84.69,-8.43 cw(c84.69,-18.43) 94.69,-18.43 94.69,-53.43 129.69,-53.43 139.69,-33.43 179.69,-33.43 189.69,-53.43 209.69,-53.43 169.69,51.57 149.69,51.57 119.69,-18.43 ; 119.68,-23.43 ccw(c102.19,-19.67) 109.69,-3.43 ccw(c92.19,21.34) 94.69,51.57 9.69,51.57 ; -75.32,31.57 -75.32,51.57 ; -75.32,31.57 -75.32,-33.43 -40.32,-33.43 -40.32,31.57 -75.32,31.57 ; -75.32,51.57 -95.32,51.57 -95.32,-33.43 -130.32,51.57 -150.32,51.57 -190.32,-53.43 -170.32,-53.43 -160.32,-33.43 -120.32,-33.43 -110.32,-53.43 -20.32,-53.43 -20.32,31.57 9.69,31.57 ; -75.32,51.57 9.69,51.57 ; 9.69,31.57 9.69,51.57 ; 9.69,31.57 9.69,11.57 49.69,11.57 49.69,31.57 9.69,31.57 ; -155.32,-13.43 -140.32,31.57 -125.32,-13.43 -155.32,-13.43 ; 9.69,-28.43 49.69,-28.43 49.69,-8.43 9.69,-8.43 9.69,-28.43 ; 74.69,11.57 74.69,31.57 89.69,31.57 cw(c89.69,21.57) 89.69,11.57 74.69,11.57 ; 144.69,-13.43 174.69,-13.43 159.69,31.57 144.69,-13.43
  lines w8: -1232.28,-1192.91 -1232.28,1192.91 cw(c-1192.91,1192.91) -1192.91,1232.28 1192.91,1232.28 cw(c1192.91,1192.91) 1232.28,1192.91 1232.28,-1192.91 cw(c1192.91,-1192.91) 1192.91,-1232.28 -1192.91,-1232.28 cw(c-1192.91,-1192.91) -1232.28,-1192.91 ; -1204.72,1129.92 -1129.92,1129.92 -1129.92,1204.72 -1204.72,1204.72 -1204.72,1129.92
Mechanical 16:
  lines w8: -799.21,-779.53 -799.21,779.53 cw(c-779.53,779.53) -779.54,799.21 779.53,799.21 cw(c779.53,779.53) 799.21,779.54 799.21,-779.53 cw(c779.53,-779.53) 779.53,-799.21 -779.53,-799.21 cw(c-779.53,-779.53) -799.21,-779.53 ; -748.03,-708.66 -748.03,708.66 -708.66,748.03 708.66,748.03 748.03,708.66 748.03,-708.66 708.66,-748.03 -708.66,-748.03 -748.03,-708.66
  text "PGA599" at -135.63,-353.74 h77.5